# Altium schematic symbol library TBP01R1-508-04BE.SchLib: 1 symbol
Pins are listed as number, name and electrical type; pins without a type are passive.

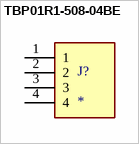
[diagram p0: symbol TBP01R1-508-04BE]

## TBP01R1-508-04BE
designator J?
MP: TBP01R1-508-04BE; Package: None; Price: None; Availability: Unavailable; Value: *
footprint CUI_TBP01R1-508-04BE
pins: 1, 2, 3, 4